# Altium footprint library CURRENT_TRANSFORMER.PcbLib: 2 footprints
Each footprint in its own frame and in the unit in brackets; x right, y up, seen from the top. Pads: shape width x height; smd on the part's side, far side on the other; paste and mask are expansions set on the pad; w line width, h text height; cw(c..) or ccw(c..) is an arc to the next point about the centre after c.
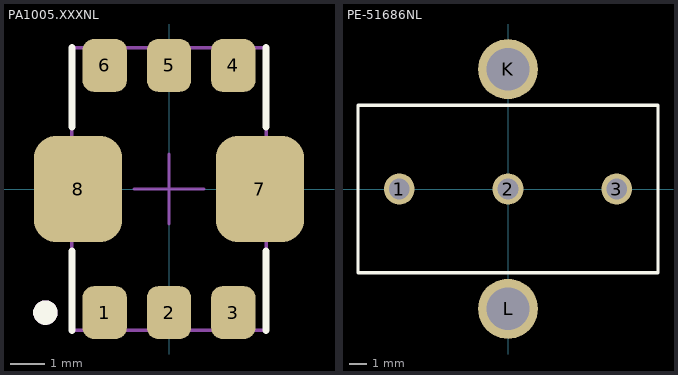
[diagram p0: the footprints below, top view; thin cyan lines are the x and y axes]

## PA1005.XXXNL [mm] "SMT Current Sense Transformers"
height 5.5
pads (8):
  rrect50% 1.27x1.52 smd: 1(-1.85,-3.555) 2(0,-3.555) 3(1.85,-3.555) 4(1.85,3.555) 5(0,3.555) 6(-1.85,3.555)
  rrect50% 2.54x3.05 smd: 7(2.615,0) 8(-2.615,0)
Top Overlay:
  circle w0.5: c-3.556,-3.556 r0.1
  lines w0.2: -2.794,-4.064 -2.794,-1.778 ; -2.794,1.778 -2.794,4.064 ; 2.794,-4.064 2.794,-1.778 ; 2.794,1.778 2.794,4.064
Top Assembly (Mech13):
  circle w0.5: c-3.556,-3.556 r0.1
  lines w0.1: -2.794,-4.064 2.794,-4.064 2.794,4.064 -2.794,4.064 -2.794,-4.064
Top Component Outline:
  lines w0.1: -1,0 1,0 ; 0,-1 0,1
3D body "User Library-PA1005_XXXNL.STEP": height 5.08, standoff 0, extent -2.794,-4 2.794,4

## PE-51686NL [mm] "THT Current Sense"
height 23.2
pads (5):
  round 1.8 hole 1.2: 1(-6.35,0) 2(0,0) 3(6.35,0)
  round 3.5 hole 2.5: K(0,7) L(0,-7)
Top Overlay:
  lines w0.2: -8.763,4.88 -8.763,-4.9 8.763,-4.9 ; -8.763,4.9 8.763,4.9 8.763,-4.88
Top Assembly (Mech13):
  lines w0.1: -8.763,4.88 -8.763,-4.9 8.763,-4.9 ; -8.763,4.9 8.763,4.9 8.763,-4.88
3D body "Triad Magnetics-CST306-1T.STEP": height 23.33, standoff -3.14, extent -8.763,-4.88 8.763,4.9